# Altium footprint library p.PcbLib: 16 footprints
Each footprint in its own frame and in the unit in brackets; x right, y up, seen from the top. Pads: shape width x height; smd on the part's side, far side on the other; paste and mask are expansions set on the pad; w line width, h text height; cw(c..) or ccw(c..) is an arc to the next point about the centre after c.
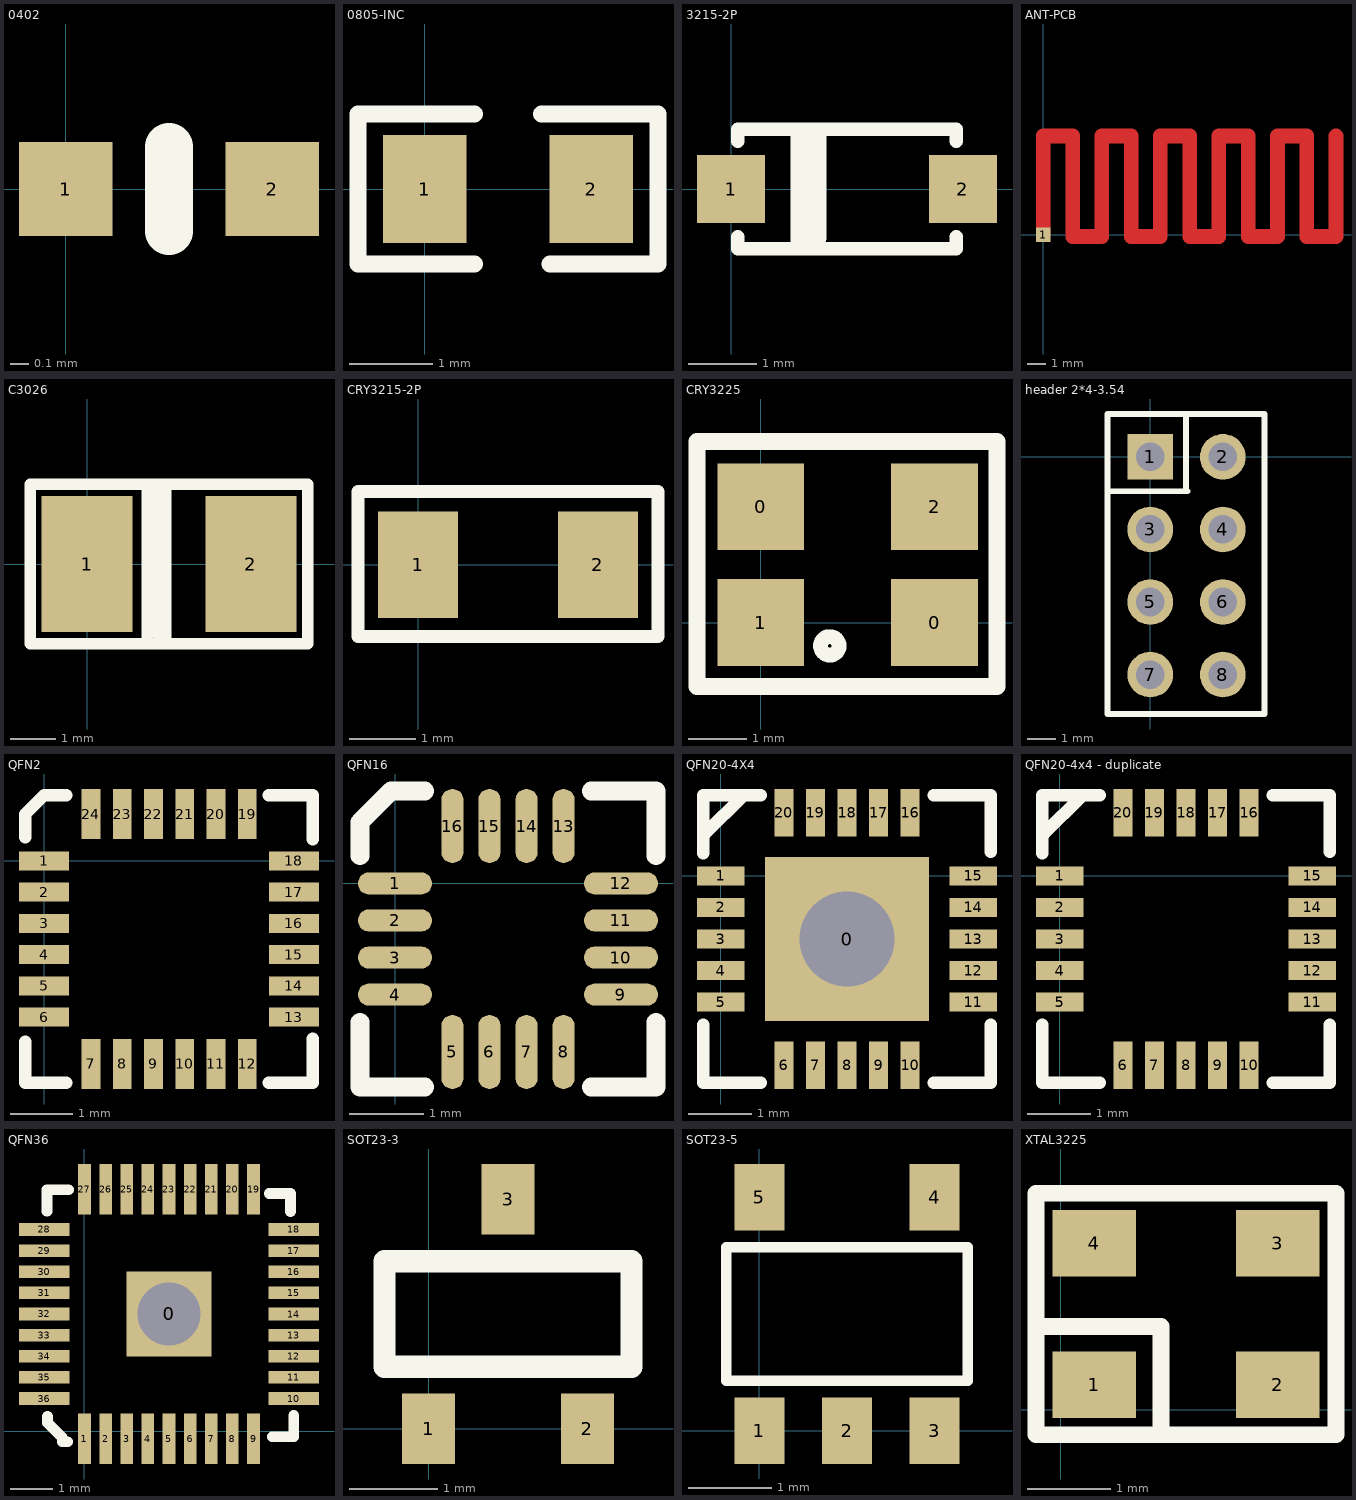
[diagram p0: the footprints below, top view; thin cyan lines are the x and y axes]

## 0402 [mm]
pads (2):
  rect 0.5x0.5 smd: 1(0,0) 2(1.1,0)
Top Overlay:
  lines w0.254: 0.55,-0.225 0.55,0.225

## 0805-INC [mm]
pads (2):
  rect 1x1.3 smd: 1(0,0) 2(2,0)
Top Overlay:
  lines w0.2: 0.6,-0.9 -0.8,-0.9 -0.8,0.9 0.6,0.9 ; 1.4,0.9 2.8,0.9 2.8,-0.9 1.5,-0.9

## 3215-2P [mm]
pads (2):
  rect 1x1 smd: 1(0,0) 2(3.4,0)
Top Overlay:
  lines w0.2: 0.1,-0.7 0.1,-0.875 3.3,-0.875 3.3,-0.7 ; 0.1,0.7 0.1,0.875 3.3,0.875 3.3,0.7 ; 0.975,-0.75 0.975,0.8 ; 1.15,-0.8 1.15,0.8 ; 1.3,-0.725 1.3,0.8

## ANT-PCB [mm]
pads (1):
  rect 0.8x0.8 smd: 1(0,0)
Top Layer:
  lines w0.8: 0,0 0,5.4 1.6,5.4 1.6,-0.1 3.2,-0.1 3.2,5.4 4.8,5.4 4.8,-0.1 6.4,-0.1 6.4,5.4 8,5.4 8,-0.1 9.6,-0.1 9.6,5.4 11.2,5.4 11.2,-0.1 12.8,-0.1 12.8,5.4 14.4,5.4 14.4,-0.1 16,-0.1 16,5.4

## C3026 [mm]
pads (2):
  rect 2x3 smd: 1(0,0) 2(3.6,0)
Top Overlay:
  lines w0.254: 1.325,-1.7 1.325,1.75 ; 1.55,1.75 1.55,-1.55 1.725,-1.725 1.725,1.75 ; -1.25,-1.75 -1.25,1.75 4.85,1.75 4.85,-1.75 -1.25,-1.75

## CRY3215-2P [mm]
pads (2):
  rect 1.2x1.6 smd: 1(0,0) 2(2.7,0)
Top Overlay:
  lines w0.2: -0.9,-1.075 -0.9,1.1 3.6,1.1 3.6,-1.075 -0.9,-1.075

## CRY3225 [mm]
pads (4):
  rect 1.5x1.5 smd: 0(0,2) 0(3,0) 1(0,0) 2(3,2)
Top Overlay:
  circle w0.254: c1.19,-0.4 r0.16
  lines w0.3: -1.1,-1.1 4.075,-1.1 4.075,3.125 -1.1,3.125 -1.1,-1.1

## header 2*4-3.54 [mm]
pads (8):
  rect 1.6x1.6 hole 1: 1(0,0)
  round 1.6 hole 1: 2(2.54,0) 3(0,-2.54) 4(2.54,-2.54) 5(0,-5.08) 6(2.54,-5.08) 7(0,-7.62) 8(2.54,-7.62)
Top Overlay:
  lines w0.2: -1.5,-1.2 1.3,-1.2 ; 1.25,-1.15 1.25,1.5 ; -1.5,-9 -1.5,1.5 4,1.5 4,-9 -1.5,-9

## QFN2 [mm]
pads (24):
  rect 0.8x0.3 smd: 1(0,0) 2(0,-0.5) 3(0,-1) 4(0,-1.5) 5(0,-2) 6(0,-2.5) 13(4,-2.5) 14(4,-2) 15(4,-1.5) 16(4,-1) 17(4,-0.5) 18(4,0)
  rect 0.3x0.8 smd: 7(0.75,-3.25) 8(1.25,-3.25) 9(1.75,-3.25) 10(2.25,-3.25) 11(2.75,-3.25) 12(3.25,-3.25) 19(3.25,0.75) 20(2.75,0.75) 21(2.25,0.75) 22(1.75,0.75) 23(1.25,0.75) 24(0.75,0.75)
Top Overlay:
  lines w0.2: -0.3,-2.896 -0.3,-3.55 0.356,-3.55 ; -0.3,0.381 -0.3,0.75 0,1.05 0.356,1.05 ; 3.6,-3.55 4.3,-3.55 4.3,-2.85 ; 3.6,1.05 4.3,1.05 4.3,0.35

## QFN16 [mm]
pads (16):
  oval 1x0.3 smd: 1(0,0) 2(0,-0.5) 3(0,-1) 4(0,-1.5) 9(3.05,-1.5) 10(3.05,-1) 11(3.05,-0.5) 12(3.05,0)
  oval 0.3x1 smd: 5(0.775,-2.275) 6(1.275,-2.275) 7(1.775,-2.275) 8(2.275,-2.275) 13(2.275,0.775) 14(1.775,0.775) 15(1.275,0.775) 16(0.775,0.775)
Top Overlay:
  lines w0.254: -0.475,-1.875 -0.475,-2.75 0.4,-2.75 ; -0.475,0.375 -0.475,0.825 -0.05,1.25 0.4,1.25 ; 2.65,-2.75 3.525,-2.75 3.525,-1.875 ; 2.65,1.25 3.525,1.25 3.525,0.375

## QFN20-4X4 [mm]
pads (21):
  rect 2.6x2.6 hole 1.5: 0(2,-1)
  rect 0.75x0.3 smd: 1(0,0) 2(0,-0.5) 3(0,-1) 4(0,-1.5) 5(0,-2) 11(4,-2) 12(4,-1.5) 13(4,-1) 14(4,-0.5) 15(4,0)
  rect 0.3x0.75 smd: 6(1,-3) 7(1.5,-3) 8(2,-3) 9(2.5,-3) 10(3,-3) 16(3,1) 17(2.5,1) 18(2,1) 19(1.5,1) 20(1,1)
Top Overlay:
  lines w0.2: -0.275,-2.362 -0.275,-3.275 0.635,-3.275 ; -0.275,0.356 -0.275,1.275 0.635,1.275 ; -0.254,0.66 0.361,1.275 0.381,1.275 ; 3.378,-3.275 4.275,-3.275 4.275,-2.362 ; 3.378,1.275 4.275,1.275 4.275,0.381

## QFN20-4x4 - duplicate [mm]
pads (20):
  rect 0.75x0.3 smd: 1(0,0) 2(0,-0.5) 3(0,-1) 4(0,-1.5) 5(0,-2) 11(4,-2) 12(4,-1.5) 13(4,-1) 14(4,-0.5) 15(4,0)
  rect 0.3x0.75 smd: 6(1,-3) 7(1.5,-3) 8(2,-3) 9(2.5,-3) 10(3,-3) 16(3,1) 17(2.5,1) 18(2,1) 19(1.5,1) 20(1,1)
Top Overlay:
  lines w0.2: -0.275,-2.362 -0.275,-3.275 0.635,-3.275 ; -0.275,0.356 -0.275,1.275 0.635,1.275 ; -0.254,0.66 0.361,1.275 0.381,1.275 ; 3.378,-3.275 4.275,-3.275 4.275,-2.362 ; 3.378,1.275 4.275,1.275 4.275,0.381

## QFN36 [mm]
pads (37):
  rect 2x2 hole 1.5: 0(2,2.775)
  rect 0.3x1.2 smd: 1(0,-0.175) 2(0.5,-0.175) 3(1,-0.175) 4(1.5,-0.175) 5(2,-0.175) 6(2.5,-0.175) 7(3,-0.175) 8(3.5,-0.175) 9(4,-0.175) 19(4,5.725) 20(3.5,5.725) 21(3,5.725) 22(2.5,5.725) 23(2,5.725) 24(1.5,5.725) 25(1,5.725) 26(0.5,5.725) 27(0,5.725)
  rect 1.2x0.3 smd: 10(4.95,0.775) 11(4.95,1.275) 12(4.95,1.775) 13(4.95,2.275) 14(4.95,2.775) 15(4.95,3.275) 16(4.95,3.775) 17(4.95,4.275) 18(4.95,4.775) 28(-0.95,4.775) 29(-0.95,4.275) 30(-0.95,3.775) 31(-0.95,3.275) 32(-0.95,2.775) 33(-0.95,2.275) 34(-0.95,1.775) 35(-0.95,1.275) 36(-0.95,0.775)
Top Overlay:
  lines w0.254: -0.889,5.207 -0.889,5.715 -0.381,5.715 ; -0.875,0.35 -0.875,0.2 -0.525,-0.15 ; -0.525,-0.25 -0.4,-0.25 ; 4.375,5.625 4.875,5.625 4.875,5.2 ; 4.445,-0.127 4.95,-0.127 4.95,0.375

## SOT23-3 [mm]
pads (3):
  rect 0.6x0.8 smd: 1(0,0) 2(1.8,0) 3(0.9,2.6)
Top Overlay:
  lines w0.254: -0.5,0.7 2.3,0.7 2.3,1.9 -0.5,1.9 -0.5,0.7

## SOT23-5 [mm]
pads (5):
  rect 0.6x0.8 smd: 1(0,0) 2(1.05,0) 3(2.1,0) 4(2.1,2.8) 5(0,2.8)
Top Overlay:
  lines w0.127: -0.4,0.6 -0.4,2.2 0.35,2.2 1.8,2.2 2.5,2.2 2.5,0.6 -0.4,0.6

## XTAL3225 [mm]
pads (4):
  rect 1x0.8 smd: 1(0.4,0.3) 2(2.6,0.3) 3(2.6,2) 4(0.4,2)
Top Overlay:
  lines w0.2: -0.2,1 1.2,1 1.2,-0.3 ; -0.3,-0.3 -0.3,2.6 3.3,2.6 3.3,-0.3 -0.3,-0.3